# Altium integrated library Headers_various.IntLib: 5 symbols
Pins are listed as number, name and electrical type; pins without a type are passive.

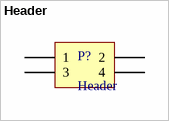
[diagram p0: symbol Header]

## Header
designator P?
footprint H2x2
footprint H2x2
footprint H2x2
pins: 1, 2, 3, 4


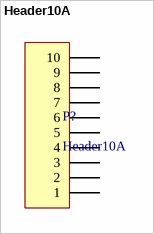
[diagram p1: symbol Header10A]

## Header10A
designator P?
footprint H10A
footprint H10A
footprint H10A
footprint H10A
pins: 1, 2, 3, 4, 5, 6, 7, 8, 9, 10


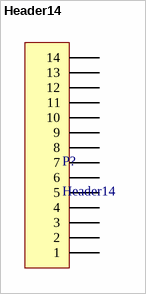
[diagram p2: symbol Header14]

## Header14
designator P?
footprint H14
footprint H14
footprint H14
footprint H14
pins: 1, 2, 3, 4, 5, 6, 7, 8, 9, 10, 11, 12, 13, 14


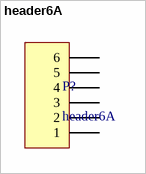
[diagram p3: symbol header6A]

## header6A
designator P?
footprint PCBComponent_1 - duplicate
footprint H6A
footprint H6A
footprint H6A
pins: 1, 2, 3, 4, 5, 6


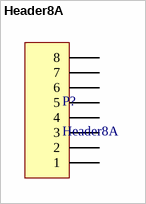
[diagram p4: symbol Header8A]

## Header8A
designator P?
footprint H8A
footprint H8A
footprint H8A
footprint H8A
pins: 1, 2, 3, 4, 5, 6, 7, 8